# EAGLE library part ULN280 (library omcTransistor)
ULN280x - Eight Darlington Arrays eight darlingtons per package 500-mA-Rated Collector Current High-Voltage Outputs: 50 V Output Clamp Diodes Inputs Compatible With Various Types of Logic Relay-Driver Applications Compatible with ULN2800A Series Reichelt Datasheet <http://cdn-reichelt.de/documents/datenblatt/A200/ULN2801A_ULN2802A_ULN2803A_ULN2804A_STM.pdf> Texas Instruments Datasheet <http://www.ti.com/lit/ds/symlink/uln2803a.pdf> (ULN2803) Unisonic Technologies Datasheet <http://www.unisonic.com.tw/datasheet/ULN2803.pdf> (ULN2803) Logic level types Type Logic Level ULN2801 General Purpose, DTL, TTL, PMOS, CMOS ULN2802 14-25V PMOS ULN2803 5V TTL, CMOS ULN2804 6–15V CMOS, PMOS Distributor Reichelt: available Conrad: available Digi-Key:
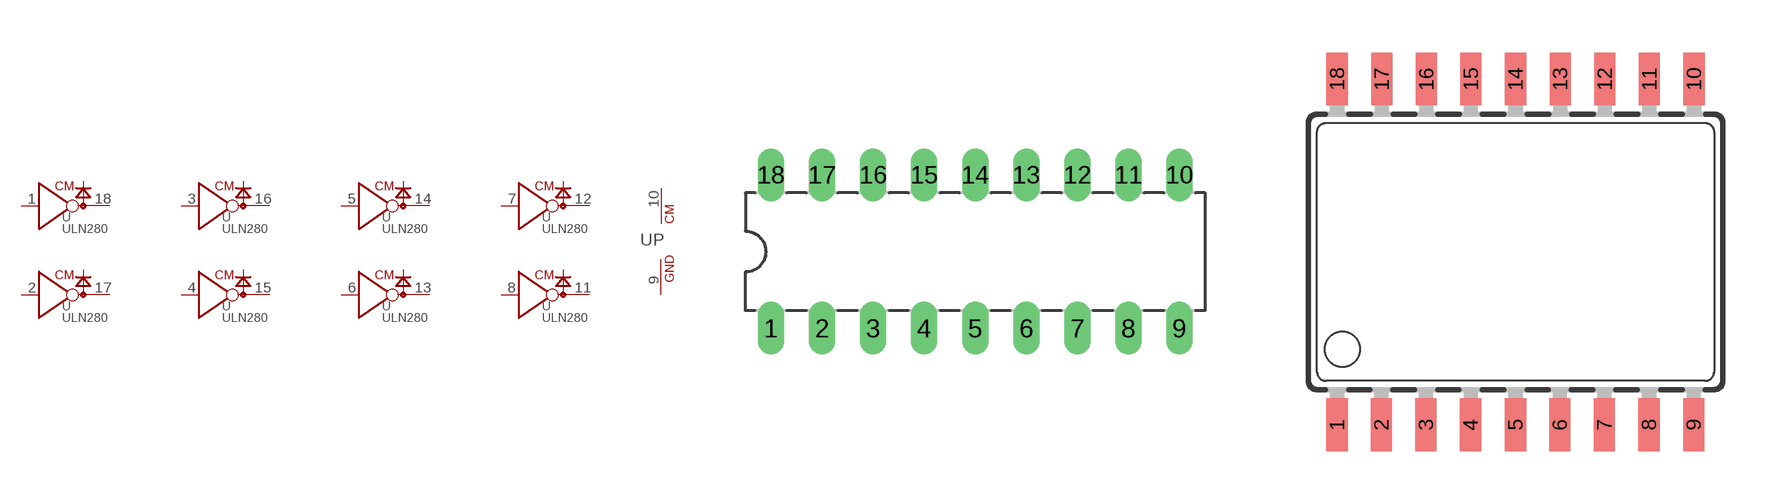
[diagram p0: symbol with the pads of DIL18; footprints DIL18, SOP18-300MIL]

Designator prefix U; gates P=GNDCM G$1=INVOC G$2=INVOC G$3=INVOC G$4=INVOC G$5=INVOC G$6=INVOC G$7=INVOC G$8=INVOC

## ULN2801A (DIST#REICHELT#: ULN 2801A; VALUE: ULN2801A), ULN2802A (DIST#REICHELT#: ULN 2802A; VALUE: ULN2802A), ULN2803A (DIST#REICHELT#: ULN 2803A; VALUE: ULN2803A), ULN2804A (DIST#REICHELT#: ULN 2804A; VALUE: ULN2804A)  [DIL18]
1  G$1:IN  in
2  G$2:IN  in
3  G$3:IN  in
4  G$4:IN  in
5  G$5:IN  in
6  G$6:IN  in
7  G$7:IN  in
8  G$8:IN  in
9  P:GND  pwr
10  P:CM+  pwr
11  G$8:OUT  oc
12  G$7:OUT  oc
13  G$6:OUT  oc
14  G$5:OUT  oc
15  G$4:OUT  oc
16  G$3:OUT  oc
17  G$2:OUT  oc
18  G$1:OUT  oc

## ULN2803D (DIST#REICHELT#: ULN 2803 D; VALUE: ULN2803D; VENDOR#: Unisonic Technologies#ULN2803-S18-R)  [SOP18-300MIL]
Pads as for DIL18

## Footprint DIL18 (pad centres in mm)
DIL18 DIP18 THT 22.9mm×7.62mm Mechanical <http://pdf.datasheetcatalog.com/datasheets/50/494942_DS.pdf> Wikipedia <https://en.wikipedia.org/wiki/Dual_in-line_package>
drill 0.813 long: 1 -10.16,-3.81; 2 -7.62,-3.81; 3 -5.08,-3.81; 4 -2.54,-3.81; 5 0,-3.81; 6 2.54,-3.81; 7 5.08,-3.81; 8 7.62,-3.81; 9 10.16,-3.81; 10 10.16,3.81; 11 7.62,3.81; 12 5.08,3.81; 13 2.54,3.81; 14 0,3.81; 15 -2.54,3.81; 16 -5.08,3.81; 17 -7.62,3.81; 18 -10.16,3.81

## Footprint SOP18-300MIL (pad centres in mm)
SOP18-300mil SMD 11.35mm×9.98mm Mechanical <http://www.holtek.com/pdf/package/sop18-300.pdf> Wikipedia <https://en.wikipedia.org/wiki/Small_Outline_Integrated_Circuit#SOP>
smd 0.6 x 1.5: 1 -5.08,-4.92; 2 -3.82,-4.92; 3 -2.55,-4.92; 4 -1.28,-4.92; 5 0,-4.92; 6 1.26,-4.92; 7 2.53,-4.92; 8 3.8,-4.92; 9 5.07,-4.92; 10 5.08,4.92; 11 3.81,4.92; 12 2.54,4.92; 13 1.27,4.92; 14 0,4.92; 15 -1.27,4.92; 16 -2.54,4.92; 17 -3.81,4.92; 18 -5.08,4.92